# Altium footprint library CUI_HSE-B20254-040H.PcbLib: 1 footprints
Each footprint in its own frame and in the unit in brackets; x right, y up, seen from the top. Pads: shape width x height; smd on the part's side, far side on the other; paste and mask are expansions set on the pad; w line width, h text height; cw(c..) or ccw(c..) is an arc to the next point about the centre after c.
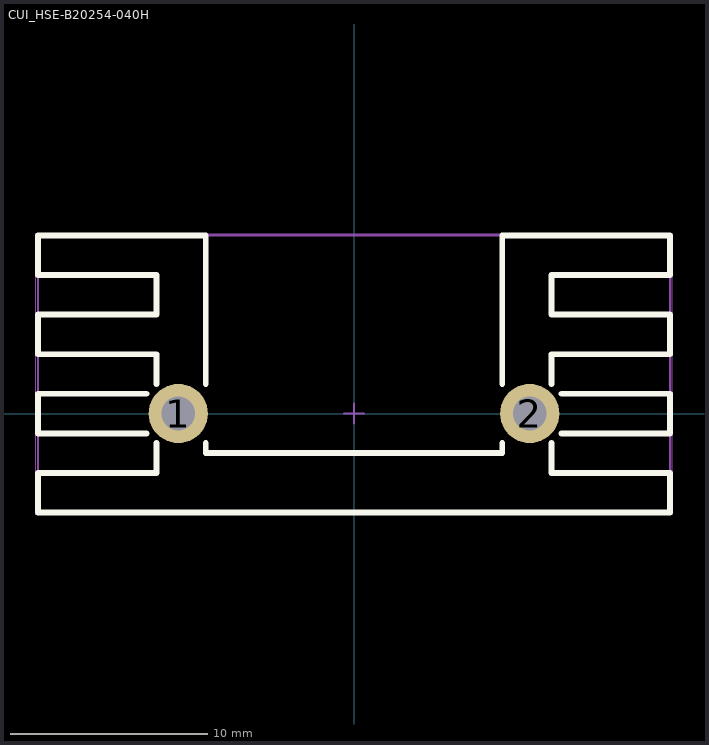
[diagram p0: the footprint, top view; thin cyan lines are the x and y axes]

## CUI_HSE-B20254-040H [mm] "CUI_HSE-B20254-040H"
height 25.4
pads (2):
  round 3 hole 1.7 paste-2539.97 mask+0.051: 1(-8.89,0) 2(8.89,0)
Top Overlay:
  lines w0.3: -10.5,-1 -16,-1 -16,1 -10.5,1 ; -10,-1.5 -10,-3 -16,-3 -16,-5 16,-5 16,-3 10,-3 10,-1.5 ; -10,1.5 -10,3 -16,3 -16,5 -10,5 -10,7 -16,7 -16,9 -7.5,9 -7.5,1.5 ; -7.5,-1.5 -7.5,-2 7.5,-2 7.5,-1.5 ; 7.5,1.5 7.5,9 16,9 16,7 10,7 10,5 16,5 16,3 10,3 10,1.5 ; 10.5,-1 16,-1 16,1 10.5,1
Mechanical 13:
  lines w0.1: -16,-5 -16,9 16,9 16,-5 -16,-5
Mechanical 15:
  lines w0.05: -16.1,-5.1 16.1,-5.1 16.1,-4.8 16.1,9.1 -16.1,9.1 -16.1,-5.1
  lines w0.1: -0.5,0 0.5,0 ; 0,-0.5 0,0.5
3D body "CUI_HSE-B20254-040H.step": height 25.4, standoff -4, extent -16,-5 16,9